# Altium integrated library Analog Devices Data Converters Analog-to-Digital Converters.IntLib: 2400 symbols (part 85 of 338)
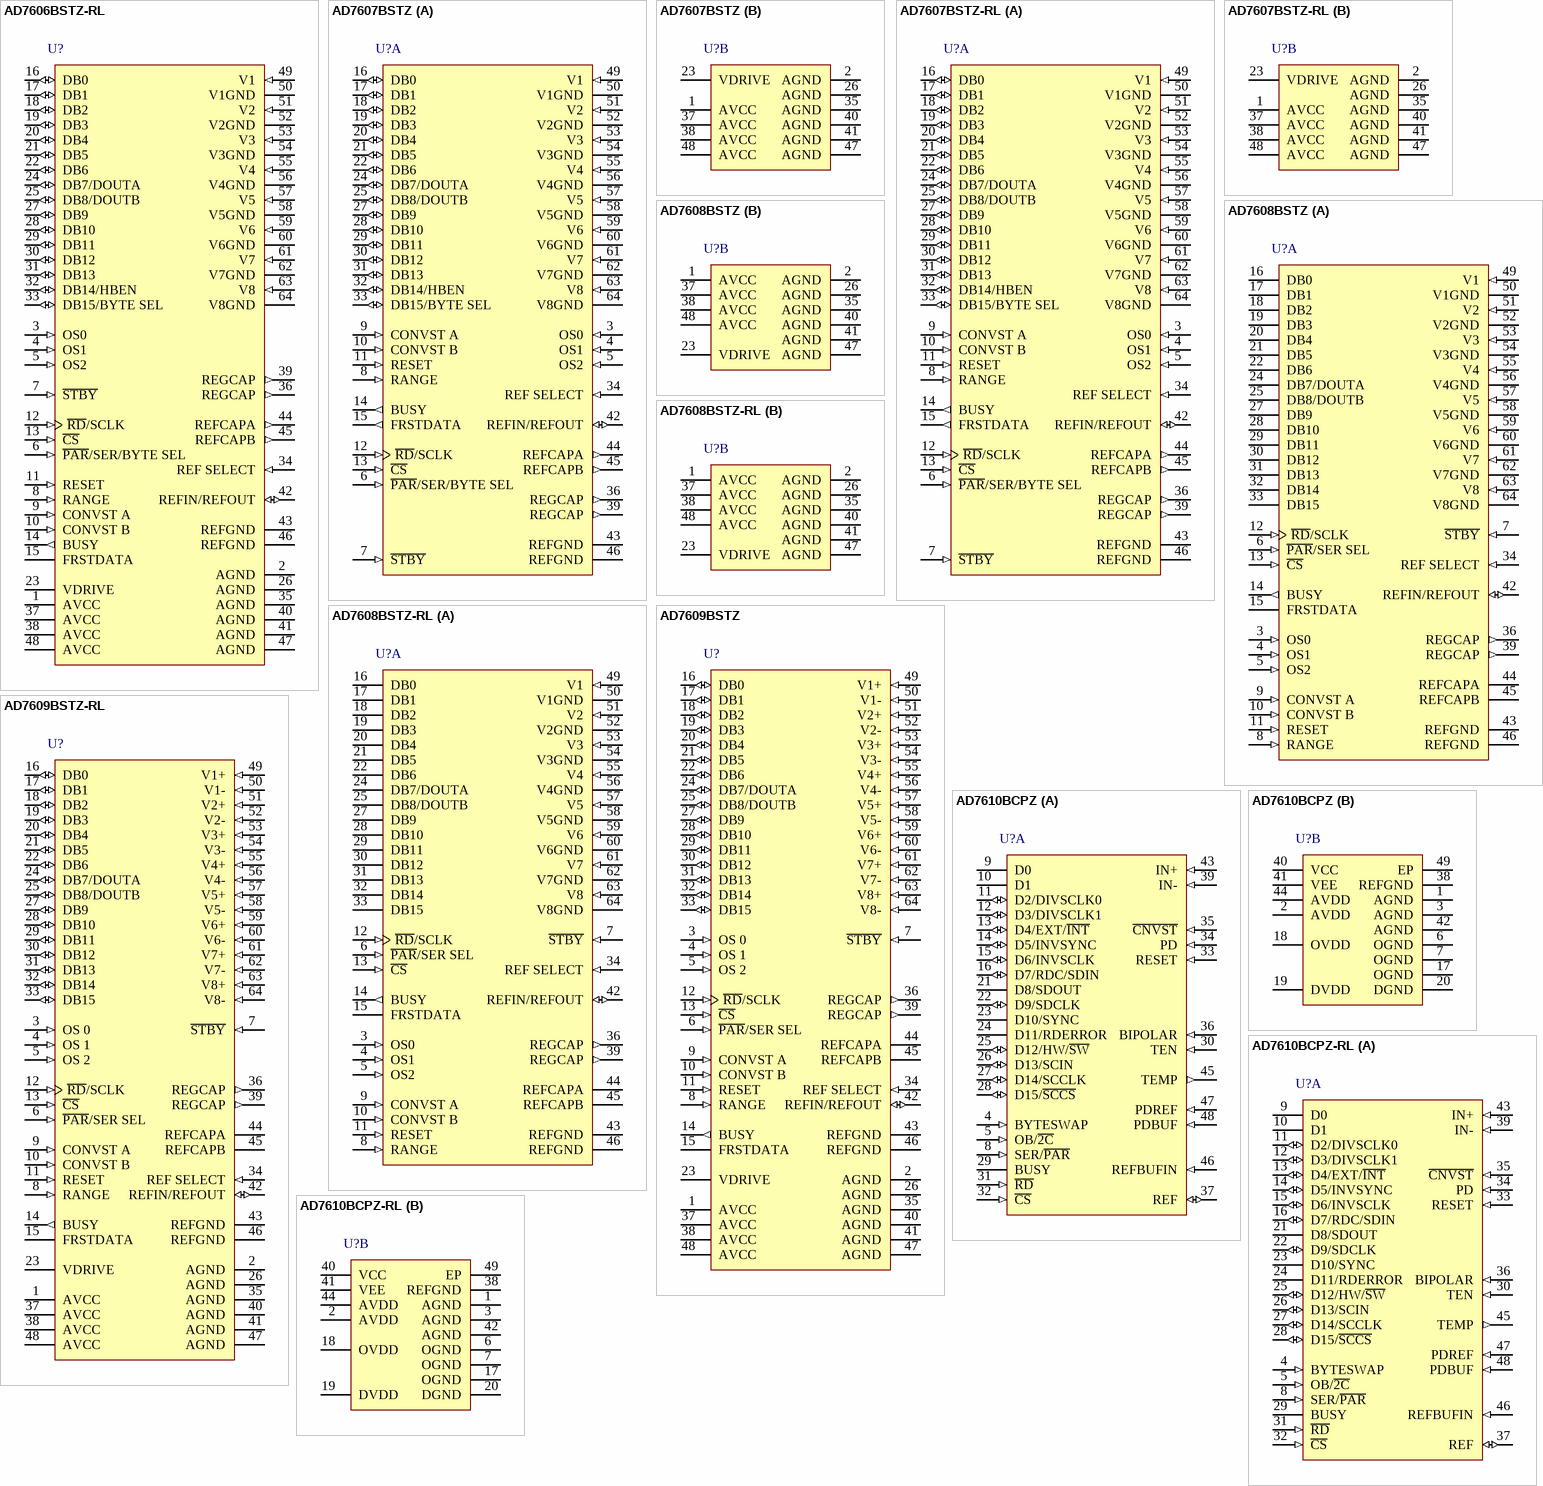
[diagram p204: symbols AD7606BSTZ-RL to AD7610BCPZ-RL]

## AD7608BSTZ-RL
designator U?
8 Channel DAS with 18-Bit, Bipolar, Simultaneous Sampling Analog-to-Digital Converter with Parallel, Serial and SPI Interface, 200KSPS, -40 to +85 degC, ST-64-2, Pb-Free, Reel; Part Number: AD7608; Manufacturer: Analog Devices; Resolution (Bits): 18; Channels: 8; Throughput Rate (SPS): 200K; Interface: Par, Ser, SPI; DatasheetVersion: Rev.A; PackageVersion: 051706-A; PackageReference: ST-64-2; PackageDescription: 64-Lead Low Profile Quad Flat Package [LQFP]; RoHS: Y; Packing: Reel; Mounting Technology: Surface Mount; Code_JEDEC: MS-026-BCD; ComponentLink1Description: Manufacturer URL; ComponentLink1URL: http://www.analog.com/en/index.html; ComponentLink2Description: Datasheet; ComponentLink2URL: http://www.analog.com/static/imported-files/data_sheets/AD7608.pdf; ComponentLink3Description: Package Specification; ComponentLink3URL: http://www.analog.com/static/imported-files/packages/PKG_PDF/LQFP%28ST%29/ST_64_2.pdf; ComponentLink4Description: Product URL; ComponentLink4URL: http://www.analog.com/en/analog-to-digital-converters/ad-converters/ad7608/products/product.html
footprint ST-64-2_N (Thin QFP, 64-Leads, Body 10x10mm, Pitch 0.5mm, IPC Medium Density)
footprint ST-64-2_L (Thin QFP, 64-Leads, Body 10x10mm, Pitch 0.5mm, IPC High Density)
footprint ST-64-2_M (Thin QFP, 64-Leads, Body 10x10mm, Pitch 0.5mm, IPC Low Density)
part A pins: 3 OS0 (in) "Oversampling Mode Pins. Logic inputs. These inputs are used to select the oversampling ratio. OS 2 is the MSB control bit, while OS 0 is the LSB control bit. See the Digital Filter section for further details on the (See Datasheet)", 4 OS1 (in) "Oversampling Mode Pins. Logic inputs. These inputs are used to select the oversampling ratio. OS 2 is the MSB control bit, while OS 0 is the LSB control bit. See the Digital Filter section for further details on the (See Datasheet)", 5 OS2 (in) "Oversampling Mode Pins. Logic inputs. These inputs are used to select the oversampling ratio. OS 2 is the MSB control bit, while OS 0 is the LSB control bit. See the Digital Filter section for further details on the (See Datasheet)", 6 ~{PAR}/SER SEL (in) "Parallel/Serial Interface Selection Input. Logic input. If this pin is tied to a logic low, the parallel interface is selected. If this pin is tied to a logic high, the serial interface is selected. In serial mode, the (See Datasheet)", 7 ~{STBY} (in) "Standby Mode Input. This pin is used to place the AD7608 into one of two power-down modes: standby mode or shutdown mode. The power-down mode entered depends on the state of the RANGE pin as shown in Table 7. When in standby (See Datasheet)", 8 RANGE (in) "Analog Input Range Selection. Logic input. The polarity on this pin determines the input range of the analog input channels. If this pin is tied to a logic high, the analog input range is +/-10 V for all channels. If this (See Datasheet)", 9 CONVST A (in) "Conversion Start Input A. Logic inputs. These logic inputs are used to initiate conversions on the analog input channels. For simultaneous sampling of all input channels, CONVST A and CONVST B can be shorted together and a (See Datasheet)", 10 CONVST B (in) "Conversion Start Input B. Logic inputs. These logic inputs are used to initiate conversions on the analog input channels. For simultaneous sampling of all input channels, CONVST A and CONVST B can be shorted together and a (See Datasheet)", 11 RESET (in) "Reset Input. When set to logic high, the rising edge of RESET resets the AD7608. Once Twake-up has elapsed, the part should receive a RESET pulse after power up. The RESET high pulse should be typically 100 ns wide. If a (See Datasheet)", 12 ~{RD}/SCLK (in) "Parallel Data Read Control Input when Parallel Interface is Selected (R\D\)/Serial Clock Input when the Serial Interface is Selected (SCLK). When both C\S\ and R\D\ are logic low in parallel mode, the output bus is enabled. (See Datasheet)", 13 ~{CS} (in) "Chip Select. This active low logic input frames the data transfer. When both C\S\ and R\D\ are logic low in parallel mode, the output bus, DB[15:0], is enabled and the conversion result is output on the parallel data bus (See Datasheet)", 14 BUSY (out) "Busy Output. This pin transitions to a logic high after both CONVST A and CONVST B rising edges and indicates that the conversion process has started. The BUSY output remains high until the conversion process for all (See Datasheet)", 15 FRSTDATA (hiz) "Digital Output. The FRSTDATA output signal indicates when the first channel, V1, is being read back on either the parallel or serial interface. When the C\S\  input is high, the FRSTDATA output pin is in three-state. The (See Datasheet)", 16 DB0 (hiz) "Parallel Output Data Bits, DB6 to DB0. When P\A\R\/SER SEL = 0, these pins act as three-state parallel digital output pins. When C\S\ and R\D\ are low, these pins are used to output DB8 to DB2 of the conversion result during (See Datasheet)", 17 DB1 (hiz) "Parallel Output Data Bits, DB6 to DB0. When P\A\R\/SER SEL = 0, these pins act as three-state parallel digital output pins. When C\S\ and R\D\ are low, these pins are used to output DB8 to DB2 of the conversion result during (See Datasheet)", 18 DB2 (hiz) "Parallel Output Data Bits, DB6 to DB0. When P\A\R\/SER SEL = 0, these pins act as three-state parallel digital output pins. When C\S\ and R\D\ are low, these pins are used to output DB8 to DB2 of the conversion result during (See Datasheet)", 19 DB3 (hiz) "Parallel Output Data Bits, DB6 to DB0. When P\A\R\/SER SEL = 0, these pins act as three-state parallel digital output pins. When C\S\ and R\D\ are low, these pins are used to output DB8 to DB2 of the conversion result during (See Datasheet)", 20 DB4 (hiz) "Parallel Output Data Bits, DB6 to DB0. When P\A\R\/SER SEL = 0, these pins act as three-state parallel digital output pins. When C\S\ and R\D\ are low, these pins are used to output DB8 to DB2 of the conversion result during (See Datasheet)", 21 DB5 (hiz) "Parallel Output Data Bits, DB6 to DB0. When P\A\R\/SER SEL = 0, these pins act as three-state parallel digital output pins. When C\S\ and R\D\ are low, these pins are used to output DB8 to DB2 of the conversion result during (See Datasheet)", 22 DB6 (hiz) "Parallel Output Data Bits, DB6 to DB0. When P\A\R\/SER SEL = 0, these pins act as three-state parallel digital output pins. When C\S\ and R\D\ are low, these pins are used to output DB8 to DB2 of the conversion result during (See Datasheet)", 24 DB7/DOUTA (hiz) "Parallel Output Data Bit 7 (DB7)/Serial Interface Data Output Pin (DoutA). When P\A\R\/SER SEL = 0, this pin acts as a three-state parallel digital output pin. When C\S\ and R\D\ are low, this pin is used to output DB9 of (See Datasheet)", 25 DB8/DOUTB (hiz) "Parallel Output Data Bit 8 (DB8)/Serial Interface Data Output Pin (DoutB). When P\A\R\/SER SEL = 0, this pin acts as a three-state parallel digital output pin. When C\S\  and R\D\ are low, this pin is used to output DB10 of (See Datasheet)", 27 DB9 (hiz) "Parallel Output Data Bits, DB13 to DB9. When P\A\R\/SER SEL = 0, these pins act as three-state parallel digital output pins. When C\S\ and R\D\ are low, these pins are used to output DB15 to DB11 of the conversion result (See Datasheet)", 28 DB10 (hiz) "Parallel Output Data Bits, DB13 to DB9. When P\A\R\/SER SEL = 0, these pins act as three-state parallel digital output pins. When C\S\ and R\D\ are low, these pins are used to output DB15 to DB11 of the conversion result (See Datasheet)", 29 DB11 (hiz) "Parallel Output Data Bits, DB13 to DB9. When P\A\R\/SER SEL = 0, these pins act as three-state parallel digital output pins. When C\S\ and R\D\ are low, these pins are used to output DB15 to DB11 of the conversion result (See Datasheet)", 30 DB12 (hiz) "Parallel Output Data Bits, DB13 to DB9. When P\A\R\/SER SEL = 0, these pins act as three-state parallel digital output pins. When C\S\ and R\D\ are low, these pins are used to output DB15 to DB11 of the conversion result (See Datasheet)", 31 DB13 (hiz) "Parallel Output Data Bits, DB13 to DB9. When P\A\R\/SER SEL = 0, these pins act as three-state parallel digital output pins. When C\S\ and R\D\ are low, these pins are used to output DB15 to DB11 of the conversion result (See Datasheet)", 32 DB14 (hiz) "Parallel Output Data Bit 14 (DB14). When P\A\R\/SER SEL = 0, this pin act as three-state parallel digital output pin. When C\S\ and R\D\ are low, this pin is used to output DB16 of the conversion result during the first R\D\ (See Datasheet)", 33 DB15 (hiz) "Parallel Output Data Bit 15 (DB15). When P\A\R\/SER SEL = 0, this pin acts as three-state parallel digital output pin. This pin is used to output DB17 of the conversion result during the first R\D\ pulse and DB1 of the same (See Datasheet)", 34 REF SELECT (in) "Internal/External Reference Selection Input. Logic input. If this pin is set to logic high then the internal reference is selected and is enabled, if this pin is set to logic low then the internal reference is disabled and (See Datasheet)", 36 REGCAP (out) "Decoupling Capacitor Pins for Voltage Output from Internal Regulator. These output pins should be decoupled separately to AGND using a 1 uF capacitor. The voltage on these output pins is in the range of 2.5 V to 2.7 V.", 39 REGCAP (out) "Decoupling Capacitor Pins for Voltage Output from Internal Regulator. These output pins should be decoupled separately to AGND using a 1 uF capacitor. The voltage on these output pins is in the range of 2.5 V to 2.7 V.", 42 REFIN/REFOUT (io) "Reference Input/Reference Output. The on-chip reference of 2.5 V is available on this pin for external use if the REF SELECT pin is set to a logic high. Alternatively, the internal reference can be disabled by setting the (See Datasheet)", 43 REFGND (power) "Reference Ground Pins. These pins should be connected to AGND.", 44 REFCAPA "Reference Buffer Output Force/Sense Pins. These pins must be connected together and decoupled to AGND using a low ESR 10 uF ceramic capacitor.", 45 REFCAPB "Reference Buffer Output Force/Sense Pins. These pins must be connected together and decoupled to AGND using a low ESR 10 uF ceramic capacitor.", 46 REFGND (power) "Reference Ground Pins. These pins should be connected to AGND.", 49 V1 (in) "Analog Inputs. These pins are single-ended analog inputs. The analog input range of these channels is determined by the RANGE pin.", 50 V1GND (power) "Analog Input Ground Pins. These pins correspond to the V1 to V8 analog input pins. Connect all analog input AGND pins to the AGND plane of a system.", 51 V2 (in) "Analog Inputs. These pins are single-ended analog inputs. The analog input range of these channels is determined by the RANGE pin.", 52 V2GND (power) "Analog Input Ground Pins. These pins correspond to the V1 to V8 analog input pins. Connect all analog input AGND pins to the AGND plane of a system.", 53 V3 (in) "Analog Inputs. These pins are single-ended analog inputs. The analog input range of these channels is determined by the RANGE pin.", 54 V3GND (power) "Analog Input Ground Pins. These pins correspond to the V1 to V8 analog input pins. Connect all analog input AGND pins to the AGND plane of a system.", 55 V4 (in) "Analog Inputs. These pins are single-ended analog inputs. The analog input range of these channels is determined by the RANGE pin.", 56 V4GND (power) "Analog Input Ground Pins. These pins correspond to the V1 to V8 analog input pins. Connect all analog input AGND pins to the AGND plane of a system.", 57 V5 (in) "Analog Inputs. These pins are single-ended analog inputs. The analog input range of these channels is determined by the RANGE pin.", 58 V5GND (power) "Analog Input Ground Pins. These pins correspond to the V1 to V8 analog input pins. Connect all analog input AGND pins to the AGND plane of a system.", 59 V6 (in) "Analog Inputs. These pins are single-ended analog inputs. The analog input range of these channels is determined by the RANGE pin.", 60 V6GND (power) "Analog Input Ground Pins. These pins correspond to the V1 to V8 analog input pins. Connect all analog input AGND pins to the AGND plane of a system.", 61 V7 (in) "Analog Inputs. These pins are single-ended analog inputs. The analog input range of these channels is determined by the RANGE pin.", 62 V7GND (power) "Analog Input Ground Pins. These pins correspond to the V1 to V8 analog input pins. Connect all analog input AGND pins to the AGND plane of a system.", 63 V8 (in) "Analog Inputs. These pins are single-ended analog inputs. The analog input range of these channels is determined by the RANGE pin.", 64 V8GND (power) "Analog Input Ground Pins. These pins correspond to the V1 to V8 analog input pins. Connect all analog input AGND pins to the AGND plane of a system."
part B pins: 1 AVCC (power) "Analog Supply Voltage 4.75 V to 5.25 V. This supply voltage is applied to the internal front-end amplifiers and to the ADC core. These supply pins should be decoupled to AGND.", 2 AGND (power) "Analog Ground. This pin is the ground reference point for all analog circuitry on the AD7608. All analog input signals and external reference signals should be referred to these pins. All six of these AGND pins should (See Datasheet)", 23 VDRIVE (power) "Logic Power Supply Input. The voltage (2.3 V to 5.25 V) supplied at this pin determines the operating voltage of the interface. This pin is nominally at the same supply as the supply of the host interface (that is, DSP and (See Datasheet)", 26 AGND (power) "Analog Ground. This pin is the ground reference point for all analog circuitry on the AD7608. All analog input signals and external reference signals should be referred to these pins. All six of these AGND pins should (See Datasheet)", 35 AGND (power) "Analog Ground. This pin is the ground reference point for all analog circuitry on the AD7608. All analog input signals and external reference signals should be referred to these pins. All six of these AGND pins should (See Datasheet)", 37 AVCC (power) "Analog Supply Voltage 4.75 V to 5.25 V. This supply voltage is applied to the internal front-end amplifiers and to the ADC core. These supply pins should be decoupled to AGND.", 38 AVCC (power) "Analog Supply Voltage 4.75 V to 5.25 V. This supply voltage is applied to the internal front-end amplifiers and to the ADC core. These supply pins should be decoupled to AGND.", 40 AGND (power) "Analog Ground. This pin is the ground reference point for all analog circuitry on the AD7608. All analog input signals and external reference signals should be referred to these pins. All six of these AGND pins should (See Datasheet)", 41 AGND (power) "Analog Ground. This pin is the ground reference point for all analog circuitry on the AD7608. All analog input signals and external reference signals should be referred to these pins. All six of these AGND pins should (See Datasheet)", 47 AGND (power) "Analog Ground. This pin is the ground reference point for all analog circuitry on the AD7608. All analog input signals and external reference signals should be referred to these pins. All six of these AGND pins should (See Datasheet)", 48 AVCC (power) "Analog Supply Voltage 4.75 V to 5.25 V. This supply voltage is applied to the internal front-end amplifiers and to the ADC core. These supply pins should be decoupled to AGND."

## AD7609BSTZ
designator U?
8 Channel DAS with 18-Bit, Bipolar, Simultaneous Sampling ADC, 200KSPS, -40 to +85 degC, ST-64-2, Pb-Free, Tray; Part Number: AD7609; Manufacturer: Analog Devices; Resolution (Bits): 18; Channels: 8; Throughput Rate (SPS): 200K; Interface: Par, Ser, SPI; DatasheetVersion: Rev.A; PackageVersion: 051706-A; PackageReference: ST-64-2; PackageDescription: 64-Lead Low Profile Quad Flat Package [LQFP]; RoHS: Y; Packing: Tray; Mounting Technology: Surface Mount; Code_JEDEC: MS-026-BCD; ComponentLink1Description: Manufacturer URL; ComponentLink1URL: http://www.analog.com/en/index.html; ComponentLink2Description: Datasheet; ComponentLink2URL: http://www.analog.com/static/imported-files/data_sheets/AD7609.pdf; ComponentLink3Description: Package Specification; ComponentLink3URL: http://www.analog.com/static/imported-files/packages/PKG_PDF/LQFP%28ST%29/ST_64_2.pdf; ComponentLink4Description: Product URL; ComponentLink4URL: http://www.analog.com/en/analog-to-digital-converters/ad-converters/ad7609/products/product.html
footprint ST-64-2_N (Thin QFP, 64-Leads, Body 10x10mm, Pitch 0.5mm, IPC Medium Density)
footprint ST-64-2_L (Thin QFP, 64-Leads, Body 10x10mm, Pitch 0.5mm, IPC High Density)
footprint ST-64-2_M (Thin QFP, 64-Leads, Body 10x10mm, Pitch 0.5mm, IPC Low Density)
pins: 1 AVCC (power) "Analog Supply Voltage 4.75 V to 5.25 V. This supply voltage is applied to the internal front-end amplifiers and to the ADC core. These supply pins should be decoupled to AGND.", 2 AGND (power) "Analog Ground. This pin is the ground reference point for all analog circuitry on the AD7609. All analog input signals and external reference signals should be referred to these pins. All six of these AGND pins should (See Datasheet)", 3 OS 0 (in) "Oversampling Mode Pins. Logic inputs. These inputs are used to select the oversampling ratio. OS 0 is the LSB control bit. See the Digital Filter section for additional details on the oversampling mode of operation and Table (See Datasheet)", 4 OS 1 (in) "Oversampling Mode Pins. Logic inputs. These inputs are used to select the oversampling ratio. OS 1 is the control bit. See the Digital Filter section for additional details on the oversampling mode of operation and Table 9 (See Datasheet)", 5 OS 2 (in) "Oversampling Mode Pins. Logic inputs. These inputs are used to select the oversampling ratio. OS 2 is the MSB control bit. See the Digital Filter section for additional details on the oversampling mode of operation and Table (See Datasheet)", 6 ~{PAR}/SER SEL (in) "Parallel/Serial Interface Selection Input. Logic input. If this pin is tied to a logic low, the parallel interface is selected. If this pin is tied to a logic high, the serial interface is selected. In serial mode, the (See Datasheet)", 7 ~{STBY} (in) "Standby Mode Input. This pin is used to place the AD7609 into one of two power-down modes: standby mode or shutdown mode. The power-down mode entered depends on the state of the RANGE pin, as shown in Table 8. When in (See Datasheet)", 8 RANGE (in) "Analog Input Range Selection. Logic input. The polarity on this pin determines the input range of the analog input channels. If this pin is tied to a logic high, the analog input range is +/-10 V for all channels. If this (See Datasheet)", 9 CONVST A (in) "Conversion Start Input A. Logic inputs. These logic inputs are used to initiate conversions on the analog input channels. For simultaneoussampling of all input channels, CONVST A and CONVST B can be shorted together and a (See Datasheet)", 10 CONVST B (in) "Conversion Start Input B. Logic inputs. These logic inputs are used to initiate conversions on the analog input channels. For simultaneoussampling of all input channels, CONVST A and CONVST B can be shorted together and a (See Datasheet)", 11 RESET (in) "Reset Input. When set to logic high, the rising edge of RESET resets the AD7609. The part must receive a RESET pulse after power-up. To achieve the specified performance after the RESET signal, the tWAKE_UP SHUTDOWN time (See Datasheet)", 12 ~{RD}/SCLK (in) "Parallel Data Read Control Input When Parallel Interface is Selected (R\D\)/Serial Clock Input When Serial Interface is Selected (SCLK). When both C\S\ and R\D\ are logic low in parallel mode, the output bus is enabled. In (See Datasheet)", 13 ~{CS} (in) "Chip Select. This active low logic input frames the data transfer. When both C\S\ and R\D\ are logic low in parallel mode, the output bus (DB[15:0]) is enabled and the conversion result is output on the parallel data bus (See Datasheet)", 14 BUSY (out) "Busy Output. This pin transitions to a logic high after both CONVST A and CONVST B rising edges and indicates that the conversion process has started. The BUSY output remains high until the conversion process for all (See Datasheet)", 15 FRSTDATA (hiz) "Digital Output. The FRSTDATA output signal indicates when the first channel, V1, is being read back on either the parallel or serial interface. When the C\S\ input is high, the FRSTDATA output pin is in three-state. The (See Datasheet)", 16 DB0 (io) "Parallel Output Data Bits, Data Bit 0. When P\A\R\/SER SEL = 0, these pins act as three-state parallel digital input/output pins. When C\S\ and R\D\ are low, these pins are used to output DB8 to DB2 of the conversion result (See Datasheet)", 17 DB1 (io) "Parallel Output Data Bits, Data Bit 1. When P\A\R\/SER SEL = 0, these pins act as three-state parallel digital input/output pins. When C\S\ and R\D\ are low, these pins are used to output DB8 to DB2 of the conversion result (See Datasheet)", 18 DB2 (io) "Parallel Output Data Bits, Data Bit 2. When P\A\R\/SER SEL = 0, these pins act as three-state parallel digital input/output pins. When C\S\ and R\D\ are low, these pins are used to output DB8 to DB2 of the conversion result (See Datasheet)", 19 DB3 (io) "Parallel Output Data Bits, Data Bit 3. When P\A\R\/SER SEL = 0, these pins act as three-state parallel digital input/output pins. When C\S\ and R\D\ are low, these pins are used to output DB8 to DB2 of the conversion result (See Datasheet)", 20 DB4 (io) "Parallel Output Data Bits, Data Bit 4. When P\A\R\/SER SEL = 0, these pins act as three-state parallel digital input/output pins. When C\S\ and R\D\ are low, these pins are used to output DB8 to DB2 of the conversion result (See Datasheet)", 21 DB5 (io) "Parallel Output Data Bits, Data Bit 5. When P\A\R\/SER SEL = 0, these pins act as three-state parallel digital input/output pins. When C\S\ and R\D\ are low, these pins are used to output DB8 to DB2 of the conversion result (See Datasheet)", 22 DB6 (io) "Parallel Output Data Bits, Data Bit 6. When P\A\R\/SER SEL = 0, these pins act as three-state parallel digital input/output pins. When C\S\ and R\D\ are low, these pins are used to output DB8 to DB2 of the conversion result (See Datasheet)", 23 VDRIVE (power) "Logic Power Supply Input. The voltage (2.3 V to 5 V) supplied at this pin determines the operating voltage of the interface. This pin is nominally at the same supply as the supply of the host interface (that is, DSP, FPGA).", 24 DB7/DOUTA (io) "Parallel Output Data Bit 7 (DB7)/Serial Interface Data Output Pin (DOUTA). When P\A\R\/SER SEL = 0, this pins acts as a three-state parallel digital input/output pin. When C\S\ and R\D\ are low, this pin is used to output (See Datasheet)", 25 DB8/DOUTB (io) "Parallel Output Data Bit 8 (DB8)/Serial Interface Data Output Pin (DOUTB). When P\A\R\/SER SEL = 0, this pins acts as a three-state parallel digital input/output pin. When C\S\ and R\D\ are low, this pin is used to output (See Datasheet)", 26 AGND (power) "Analog Ground. This pin is the ground reference point for all analog circuitry on the AD7609. All analog input signals and external reference signals should be referred to these pins. All six of these AGND pins should (See Datasheet)", 27 DB9 (io) "Parallel Output Data Bits, Data Bit 9. When P\A\R\/SER SEL = 0, these pins act as three-state parallel digital input/output pins. When C\S\ and R\D\ are low, these pins are used to output DB15 to DB11 of the conversion (See Datasheet)", 28 DB10 (io) "Parallel Output Data Bits, Data Bit 10. When P\A\R\/SER SEL = 0, these pins act as three-state parallel digital input/output pins. When C\S\ and R\D\ are low, these pins are used to output DB15 to DB11 of the conversion (See Datasheet)", 29 DB11 (io) "Parallel Output Data Bits, Data Bit 11. When P\A\R\/SER SEL = 0, these pins act as three-state parallel digital input/output pins. When C\S\ and R\D\ are low, these pins are used to output DB15 to DB11 of the conversion (See Datasheet)", 30 DB12 (io) "Parallel Output Data Bits, Data Bit 12. When P\A\R\/SER SEL = 0, these pins act as three-state parallel digital input/output pins. When C\S\ and R\D\ are low, these pins are used to output DB15 to DB11 of the conversion (See Datasheet)", 31 DB13 (io) "Parallel Output Data Bits, Data Bit 13. When P\A\R\/SER SEL = 0, these pins act as three-state parallel digital input/output pins. When C\S\ and R\D\ are low, these pins are used to output DB15 to DB11 of the conversion (See Datasheet)", 32 DB14 (io) "Parallel Output Data Bits, Data Bit 14. When P\A\R\/SER SEL = 0, this pin acts as three-state parallel digital output pin. When C\S\ and R\D\ are low, this pin is used to output DB16 of the conversion result during the first (See Datasheet)", 33 DB15 (io) "Parallel Output Data Bits, Data Bit 15. When P\A\R\/SER SEL = 0, this pin acts as three-state parallel digital output pin. This pin is used to output DB17 of the conversion result during the first R\D\ pulse and DB1 of the (See Datasheet)", 34 REF SELECT (in) "Internal/External Reference Selection Input. Logic input. If this pin is set to logic high, the internal reference is selected and is enabled. If this pin is set to logic low, the internal reference is disabled and an (See Datasheet)", 35 AGND (power) "Analog Ground. This pin is the ground reference point for all analog circuitry on the AD7609. All analog input signals and external reference signals should be referred to these pins. All six of these AGND pins should (See Datasheet)", 36 REGCAP (out) "Decoupling Capacitor Pins for Voltage Output from Internal Regulator. These output pins should be decoupled separately to AGND using a 1 uF capacitor. The voltage on these output pins is in the range of 2.5 V to 2.7 V.", 37 AVCC (power) "Analog Supply Voltage 4.75 V to 5.25 V. This supply voltage is applied to the internal front-end amplifiers and to the ADC core. These supply pins should be decoupled to AGND.", 38 AVCC (power) "Analog Supply Voltage 4.75 V to 5.25 V. This supply voltage is applied to the internal front-end amplifiers and to the ADC core. These supply pins should be decoupled to AGND.", 39 REGCAP (out) "Decoupling Capacitor Pins for Voltage Output from Internal Regulator. These output pins should be decoupled separately to AGND using a 1 uF capacitor. The voltage on these output pins is in the range of 2.5 V to 2.7 V.", 40 AGND (power) "Analog Ground. This pin is the ground reference point for all analog circuitry on the AD7609. All analog input signals and external reference signals should be referred to these pins. All six of these AGND pins should (See Datasheet)", 41 AGND (power) "Analog Ground. This pin is the ground reference point for all analog circuitry on the AD7609. All analog input signals and external reference signals should be referred to these pins. All six of these AGND pins should (See Datasheet)", 42 REFIN/REFOUT (io) "Reference Input/ Reference Output. The on-chip reference of 2.5 V is available on this pin for external use if the REF SELECT pin is set to a logic high. Alternatively, the internal reference can be disabled by setting the (See Datasheet)", 43 REFGND (power) "Reference Ground Pins. These pins should be connected to AGND.", 44 REFCAPA "Reference Buffer Output Force/Sense Pins. These pins must be connected together and decoupled to AGND using a low ESR 10 uF ceramic capacitor.", 45 REFCAPB "Reference Buffer Output Force/Sense Pins. These pins must be connected together and decoupled to AGND using a low ESR 10 uF ceramic capacitor.", 46 REFGND (power) "Reference Ground Pins. These pins should be connected to AGND.", 47 AGND (power) "Analog Ground. This pin is the ground reference point for all analog circuitry on the AD7609. All analog input signals and external reference signals should be referred to these pins. All six of these AGND pins should (See Datasheet)", 48 AVCC (power) "Analog Supply Voltage 4.75 V to 5.25 V. This supply voltage is applied to the internal front-end amplifiers and to the ADC core. These supply pins should be decoupled to AGND.", 49 V1+ (in) "Analog Input V1+. These pins are the positive terminal of the true differential analog inputs. The analog input range of these channels is determined by the RANGE pin.", 50 V1- (in) "Analog Input V1-. These are the negative terminals of the true differential analog inputs. The analog input range of these channels is determined by the RANGE pin. The signal on this pin should be 180degrees out of phase (See Datasheet)", 51 V2+ (in) "Analog Input V2+. These pins are the positive terminal of the true differential analog inputs. The analog input range of these channels is determined by the RANGE pin.", 52 V2- (in) "Analog Input V2-. These are the negative terminals of the true differential analog inputs. The analog input range of these channels is determined by the RANGE pin. The signal on this pin should be 180degrees out of phase (See Datasheet)", 53 V3+ (in) "Analog Input V3+. These pins are the positive terminal of the true differential analog inputs. The analog input range of these channels is determined by the RANGE pin.", 54 V3- (in) "Analog Input V3-. These are the negative terminals of the true differential analog inputs. The analog input range of these channels is determined by the RANGE pin. The signal on this pin should be 180degrees out of phase (See Datasheet)", 55 V4+ (in) "Analog Input V4+. These pins are the positive terminal of the true differential analog inputs. The analog input range of these channels is determined by the RANGE pin.", 56 V4- (in) "Analog Input V4-. These are the negative terminals of the true differential analog inputs. The analog input range of these channels is determined by the RANGE pin. The signal on this pin should be 180degrees out of phase (See Datasheet)", 57 V5+ (in) "Analog Input V5+. These pins are the positive terminal of the true differential analog inputs. The analog input range of these channels is determined by the RANGE pin.", 58 V5- (in) "Analog Input V5-. These are the negative terminals of the true differential analog inputs. The analog input range of these channels is determined by the RANGE pin. The signal on this pin should be 180degrees out of phase (See Datasheet)", 59 V6+ (in) "Analog Input V6+. These pins are the positive terminal of the true differential analog inputs. The analog input range of these channels is determined by the RANGE pin.", 60 V6- (in) "Analog Input V6- These are the negative terminals of the true differential analog inputs. The analog input range of these channels is determined by the RANGE pin. The signal on this pin should be 180degrees out of phase with (See Datasheet)", 61 V7+ (in) "Analog Input V7+. These pins are the positive terminal of the true differential analog inputs. The analog input range of these channels is determined by the RANGE pin.", 62 V7- (in) "Analog Input V7-. These are the negative terminals of the true differential analog inputs. The analog input range of these channels is determined by the RANGE pin. The signal on this pin should be 180degrees out of phase (See Datasheet)", 63 V8+ (in) "Analog Input V8+. These pins are the positive terminal of the true differential analog inputs. The analog input range of these channels is determined by the RANGE pin.", 64 V8- (in) "Analog Input V8-. These are the negative terminals of the true differential analog inputs. The analog input range of these channels is determined by the RANGE pin. The signal on this pin should be 180degrees out of phase (See Datasheet)"

## AD7609BSTZ-RL
designator U?
8 Channel DAS with 18-Bit, Bipolar, Simultaneous Sampling ADC, 200KSPS, -40 to +85 degC, ST-64-2, Pb-Free, Reel; Part Number: AD7609; Manufacturer: Analog Devices; Resolution (Bits): 18; Channels: 8; Throughput Rate (SPS): 200K; Interface: Par, Ser, SPI; DatasheetVersion: Rev.A; PackageVersion: 051706-A; PackageReference: ST-64-2; PackageDescription: 64-Lead Low Profile Quad Flat Package [LQFP]; RoHS: Y; Packing: Reel; Mounting Technology: Surface Mount; Code_JEDEC: MS-026-BCD; ComponentLink1Description: Manufacturer URL; ComponentLink1URL: http://www.analog.com/en/index.html; ComponentLink2Description: Datasheet; ComponentLink2URL: http://www.analog.com/static/imported-files/data_sheets/AD7609.pdf; ComponentLink3Description: Package Specification; ComponentLink3URL: http://www.analog.com/static/imported-files/packages/PKG_PDF/LQFP%28ST%29/ST_64_2.pdf; ComponentLink4Description: Product URL; ComponentLink4URL: http://www.analog.com/en/analog-to-digital-converters/ad-converters/ad7609/products/product.html
footprint ST-64-2_N (Thin QFP, 64-Leads, Body 10x10mm, Pitch 0.5mm, IPC Medium Density)
footprint ST-64-2_L (Thin QFP, 64-Leads, Body 10x10mm, Pitch 0.5mm, IPC High Density)
footprint ST-64-2_M (Thin QFP, 64-Leads, Body 10x10mm, Pitch 0.5mm, IPC Low Density)
pins: 1 AVCC (power) "Analog Supply Voltage 4.75 V to 5.25 V. This supply voltage is applied to the internal front-end amplifiers and to the ADC core. These supply pins should be decoupled to AGND.", 2 AGND (power) "Analog Ground. This pin is the ground reference point for all analog circuitry on the AD7609. All analog input signals and external reference signals should be referred to these pins. All six of these AGND pins should (See Datasheet)", 3 OS 0 (in) "Oversampling Mode Pins. Logic inputs. These inputs are used to select the oversampling ratio. OS 0 is the LSB control bit. See the Digital Filter section for additional details on the oversampling mode of operation and Table (See Datasheet)", 4 OS 1 (in) "Oversampling Mode Pins. Logic inputs. These inputs are used to select the oversampling ratio. OS 1 is the control bit. See the Digital Filter section for additional details on the oversampling mode of operation and Table 9 (See Datasheet)", 5 OS 2 (in) "Oversampling Mode Pins. Logic inputs. These inputs are used to select the oversampling ratio. OS 2 is the MSB control bit. See the Digital Filter section for additional details on the oversampling mode of operation and Table (See Datasheet)", 6 ~{PAR}/SER SEL (in) "Parallel/Serial Interface Selection Input. Logic input. If this pin is tied to a logic low, the parallel interface is selected. If this pin is tied to a logic high, the serial interface is selected. In serial mode, the (See Datasheet)", 7 ~{STBY} (in) "Standby Mode Input. This pin is used to place the AD7609 into one of two power-down modes: standby mode or shutdown mode. The power-down mode entered depends on the state of the RANGE pin, as shown in Table 8. When in (See Datasheet)", 8 RANGE (in) "Analog Input Range Selection. Logic input. The polarity on this pin determines the input range of the analog input channels. If this pin is tied to a logic high, the analog input range is +/-10 V for all channels. If this (See Datasheet)", 9 CONVST A (in) "Conversion Start Input A. Logic inputs. These logic inputs are used to initiate conversions on the analog input channels. For simultaneoussampling of all input channels, CONVST A and CONVST B can be shorted together and a (See Datasheet)", 10 CONVST B (in) "Conversion Start Input B. Logic inputs. These logic inputs are used to initiate conversions on the analog input channels. For simultaneoussampling of all input channels, CONVST A and CONVST B can be shorted together and a (See Datasheet)", 11 RESET (in) "Reset Input. When set to logic high, the rising edge of RESET resets the AD7609. The part must receive a RESET pulse after power-up. To achieve the specified performance after the RESET signal, the tWAKE_UP SHUTDOWN time (See Datasheet)", 12 ~{RD}/SCLK (in) "Parallel Data Read Control Input When Parallel Interface is Selected (R\D\)/Serial Clock Input When Serial Interface is Selected (SCLK). When both C\S\ and R\D\ are logic low in parallel mode, the output bus is enabled. In (See Datasheet)", 13 ~{CS} (in) "Chip Select. This active low logic input frames the data transfer. When both C\S\ and R\D\ are logic low in parallel mode, the output bus (DB[15:0]) is enabled and the conversion result is output on the parallel data bus (See Datasheet)", 14 BUSY (out) "Busy Output. This pin transitions to a logic high after both CONVST A and CONVST B rising edges and indicates that the conversion process has started. The BUSY output remains high until the conversion process for all (See Datasheet)", 15 FRSTDATA (hiz) "Digital Output. The FRSTDATA output signal indicates when the first channel, V1, is being read back on either the parallel or serial interface. When the C\S\ input is high, the FRSTDATA output pin is in three-state. The (See Datasheet)", 16 DB0 (io) "Parallel Output Data Bits, Data Bit 0. When P\A\R\/SER SEL = 0, these pins act as three-state parallel digital input/output pins. When C\S\ and R\D\ are low, these pins are used to output DB8 to DB2 of the conversion result (See Datasheet)", 17 DB1 (io) "Parallel Output Data Bits, Data Bit 1. When P\A\R\/SER SEL = 0, these pins act as three-state parallel digital input/output pins. When C\S\ and R\D\ are low, these pins are used to output DB8 to DB2 of the conversion result (See Datasheet)", 18 DB2 (io) "Parallel Output Data Bits, Data Bit 2. When P\A\R\/SER SEL = 0, these pins act as three-state parallel digital input/output pins. When C\S\ and R\D\ are low, these pins are used to output DB8 to DB2 of the conversion result (See Datasheet)", 19 DB3 (io) "Parallel Output Data Bits, Data Bit 3. When P\A\R\/SER SEL = 0, these pins act as three-state parallel digital input/output pins. When C\S\ and R\D\ are low, these pins are used to output DB8 to DB2 of the conversion result (See Datasheet)", 20 DB4 (io) "Parallel Output Data Bits, Data Bit 4. When P\A\R\/SER SEL = 0, these pins act as three-state parallel digital input/output pins. When C\S\ and R\D\ are low, these pins are used to output DB8 to DB2 of the conversion result (See Datasheet)", 21 DB5 (io) "Parallel Output Data Bits, Data Bit 5. When P\A\R\/SER SEL = 0, these pins act as three-state parallel digital input/output pins. When C\S\ and R\D\ are low, these pins are used to output DB8 to DB2 of the conversion result (See Datasheet)", 22 DB6 (io) "Parallel Output Data Bits, Data Bit 6. When P\A\R\/SER SEL = 0, these pins act as three-state parallel digital input/output pins. When C\S\ and R\D\ are low, these pins are used to output DB8 to DB2 of the conversion result (See Datasheet)", 23 VDRIVE (power) "Logic Power Supply Input. The voltage (2.3 V to 5 V) supplied at this pin determines the operating voltage of the interface. This pin is nominally at the same supply as the supply of the host interface (that is, DSP, FPGA).", 24 DB7/DOUTA (io) "Parallel Output Data Bit 7 (DB7)/Serial Interface Data Output Pin (DOUTA). When P\A\R\/SER SEL = 0, this pins acts as a three-state parallel digital input/output pin. When C\S\ and R\D\ are low, this pin is used to output (See Datasheet)", 25 DB8/DOUTB (io) "Parallel Output Data Bit 8 (DB8)/Serial Interface Data Output Pin (DOUTB). When P\A\R\/SER SEL = 0, this pins acts as a three-state parallel digital input/output pin. When C\S\ and R\D\ are low, this pin is used to output (See Datasheet)", 26 AGND (power) "Analog Ground. This pin is the ground reference point for all analog circuitry on the AD7609. All analog input signals and external reference signals should be referred to these pins. All six of these AGND pins should (See Datasheet)", 27 DB9 (io) "Parallel Output Data Bits, Data Bit 9. When P\A\R\/SER SEL = 0, these pins act as three-state parallel digital input/output pins. When C\S\ and R\D\ are low, these pins are used to output DB15 to DB11 of the conversion (See Datasheet)", 28 DB10 (io) "Parallel Output Data Bits, Data Bit 10. When P\A\R\/SER SEL = 0, these pins act as three-state parallel digital input/output pins. When C\S\ and R\D\ are low, these pins are used to output DB15 to DB11 of the conversion (See Datasheet)", 29 DB11 (io) "Parallel Output Data Bits, Data Bit 11. When P\A\R\/SER SEL = 0, these pins act as three-state parallel digital input/output pins. When C\S\ and R\D\ are low, these pins are used to output DB15 to DB11 of the conversion (See Datasheet)", 30 DB12 (io) "Parallel Output Data Bits, Data Bit 12. When P\A\R\/SER SEL = 0, these pins act as three-state parallel digital input/output pins. When C\S\ and R\D\ are low, these pins are used to output DB15 to DB11 of the conversion (See Datasheet)", 31 DB13 (io) "Parallel Output Data Bits, Data Bit 13. When P\A\R\/SER SEL = 0, these pins act as three-state parallel digital input/output pins. When C\S\ and R\D\ are low, these pins are used to output DB15 to DB11 of the conversion (See Datasheet)", 32 DB14 (io) "Parallel Output Data Bits, Data Bit 14. When P\A\R\/SER SEL = 0, this pin acts as three-state parallel digital output pin. When C\S\ and R\D\ are low, this pin is used to output DB16 of the conversion result during the first (See Datasheet)", 33 DB15 (io) "Parallel Output Data Bits, Data Bit 15. When P\A\R\/SER SEL = 0, this pin acts as three-state parallel digital output pin. This pin is used to output DB17 of the conversion result during the first R\D\ pulse and DB1 of the (See Datasheet)", 34 REF SELECT (in) "Internal/External Reference Selection Input. Logic input. If this pin is set to logic high, the internal reference is selected and is enabled. If this pin is set to logic low, the internal reference is disabled and an (See Datasheet)", 35 AGND (power) "Analog Ground. This pin is the ground reference point for all analog circuitry on the AD7609. All analog input signals and external reference signals should be referred to these pins. All six of these AGND pins should (See Datasheet)", 36 REGCAP (out) "Decoupling Capacitor Pins for Voltage Output from Internal Regulator. These output pins should be decoupled separately to AGND using a 1 uF capacitor. The voltage on these output pins is in the range of 2.5 V to 2.7 V.", 37 AVCC (power) "Analog Supply Voltage 4.75 V to 5.25 V. This supply voltage is applied to the internal front-end amplifiers and to the ADC core. These supply pins should be decoupled to AGND.", 38 AVCC (power) "Analog Supply Voltage 4.75 V to 5.25 V. This supply voltage is applied to the internal front-end amplifiers and to the ADC core. These supply pins should be decoupled to AGND.", 39 REGCAP (out) "Decoupling Capacitor Pins for Voltage Output from Internal Regulator. These output pins should be decoupled separately to AGND using a 1 uF capacitor. The voltage on these output pins is in the range of 2.5 V to 2.7 V.", 40 AGND (power) "Analog Ground. This pin is the ground reference point for all analog circuitry on the AD7609. All analog input signals and external reference signals should be referred to these pins. All six of these AGND pins should (See Datasheet)", 41 AGND (power) "Analog Ground. This pin is the ground reference point for all analog circuitry on the AD7609. All analog input signals and external reference signals should be referred to these pins. All six of these AGND pins should (See Datasheet)", 42 REFIN/REFOUT (io) "Reference Input/ Reference Output. The on-chip reference of 2.5 V is available on this pin for external use if the REF SELECT pin is set to a logic high. Alternatively, the internal reference can be disabled by setting the (See Datasheet)", 43 REFGND (power) "Reference Ground Pins. These pins should be connected to AGND.", 44 REFCAPA "Reference Buffer Output Force/Sense Pins. These pins must be connected together and decoupled to AGND using a low ESR 10 uF ceramic capacitor.", 45 REFCAPB "Reference Buffer Output Force/Sense Pins. These pins must be connected together and decoupled to AGND using a low ESR 10 uF ceramic capacitor.", 46 REFGND (power) "Reference Ground Pins. These pins should be connected to AGND.", 47 AGND (power) "Analog Ground. This pin is the ground reference point for all analog circuitry on the AD7609. All analog input signals and external reference signals should be referred to these pins. All six of these AGND pins should (See Datasheet)", 48 AVCC (power) "Analog Supply Voltage 4.75 V to 5.25 V. This supply voltage is applied to the internal front-end amplifiers and to the ADC core. These supply pins should be decoupled to AGND.", 49 V1+ (in) "Analog Input V1+. These pins are the positive terminal of the true differential analog inputs. The analog input range of these channels is determined by the RANGE pin.", 50 V1- (in) "Analog Input V1-. These are the negative terminals of the true differential analog inputs. The analog input range of these channels is determined by the RANGE pin. The signal on this pin should be 180degrees out of phase (See Datasheet)", 51 V2+ (in) "Analog Input V2+. These pins are the positive terminal of the true differential analog inputs. The analog input range of these channels is determined by the RANGE pin.", 52 V2- (in) "Analog Input V2-. These are the negative terminals of the true differential analog inputs. The analog input range of these channels is determined by the RANGE pin. The signal on this pin should be 180degrees out of phase (See Datasheet)", 53 V3+ (in) "Analog Input V3+. These pins are the positive terminal of the true differential analog inputs. The analog input range of these channels is determined by the RANGE pin.", 54 V3- (in) "Analog Input V3-. These are the negative terminals of the true differential analog inputs. The analog input range of these channels is determined by the RANGE pin. The signal on this pin should be 180degrees out of phase (See Datasheet)", 55 V4+ (in) "Analog Input V4+. These pins are the positive terminal of the true differential analog inputs. The analog input range of these channels is determined by the RANGE pin.", 56 V4- (in) "Analog Input V4-. These are the negative terminals of the true differential analog inputs. The analog input range of these channels is determined by the RANGE pin. The signal on this pin should be 180degrees out of phase (See Datasheet)", 57 V5+ (in) "Analog Input V5+. These pins are the positive terminal of the true differential analog inputs. The analog input range of these channels is determined by the RANGE pin.", 58 V5- (in) "Analog Input V5-. These are the negative terminals of the true differential analog inputs. The analog input range of these channels is determined by the RANGE pin. The signal on this pin should be 180degrees out of phase (See Datasheet)", 59 V6+ (in) "Analog Input V6+. These pins are the positive terminal of the true differential analog inputs. The analog input range of these channels is determined by the RANGE pin.", 60 V6- (in) "Analog Input V6- These are the negative terminals of the true differential analog inputs. The analog input range of these channels is determined by the RANGE pin. The signal on this pin should be 180degrees out of phase with (See Datasheet)", 61 V7+ (in) "Analog Input V7+. These pins are the positive terminal of the true differential analog inputs. The analog input range of these channels is determined by the RANGE pin.", 62 V7- (in) "Analog Input V7-. These are the negative terminals of the true differential analog inputs. The analog input range of these channels is determined by the RANGE pin. The signal on this pin should be 180degrees out of phase (See Datasheet)", 63 V8+ (in) "Analog Input V8+. These pins are the positive terminal of the true differential analog inputs. The analog input range of these channels is determined by the RANGE pin.", 64 V8- (in) "Analog Input V8-. These are the negative terminals of the true differential analog inputs. The analog input range of these channels is determined by the RANGE pin. The signal on this pin should be 180degrees out of phase (See Datasheet)"